# EAGLE library part BNO085 (library df4iah_sensors)
hillcrestlabs BNO085 triaxial Accelerometer triaxial Gyroscope triaxial Magnetometer 32-bit ARM® Cortex™-M0+ Low latency, 1kHz gyro rotation vector 28 pin LGA 3.8mm x 5.2mm x 1.1mm package
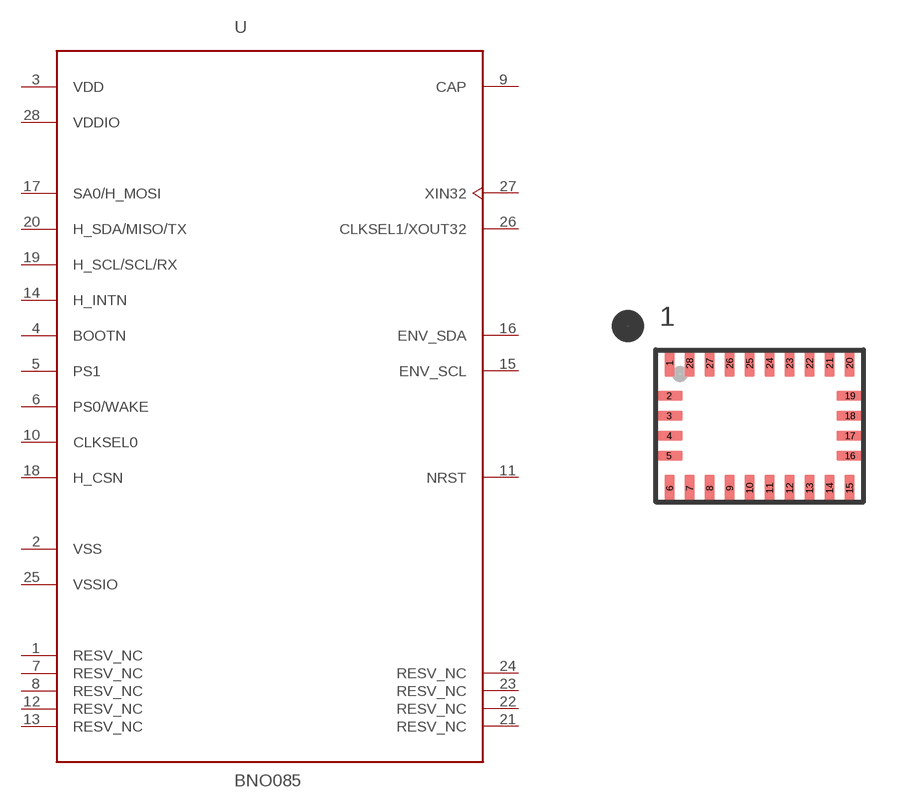
[diagram p4: symbol with the pads of BNO085_LGA28; footprint BNO085_LGA28]

Designator prefix U

## BNO085  [BNO085_LGA28]
1  RESV_NC  nc
2  VSS  pas
3  VDD  pwr
4  BOOTN  in
5  PS1  in
6  PS0/WAKE  in
7  RESV_NC  nc
8  RESV_NC  nc
9  CAP  pas
10  CLKSEL0  in
11  NRST  in
12  RESV_NC  nc
13  RESV_NC  nc
14  H_INTN  out
15  ENV_SCL
16  ENV_SDA
17  SA0/H_MOSI  in
18  H_CSN  in
19  H_SCL/SCL/RX
20  H_SDA/MISO/TX
21  RESV_NC  nc
22  RESV_NC  nc
23  RESV_NC  nc
24  RESV_NC  nc
25  VSSIO  pas
26  CLKSEL1/XOUT32  out
27  XIN32  in
28  VDDIO  pwr

## Footprint BNO085_LGA28 (pad centres in mm)
hillcrestlabs BNO085 triaxial Accelerometer triaxial Gyroscope triaxial Magnetometer 32-bit ARM® Cortex™-M0+ Low latency, 1kHz gyro rotation vector 28 pin LGA 3.8mm x 5.2mm x 1.1mm package
smd 0.25 x 0.675: 1 -2.25,1.562; 6 -2.25,-1.562; 7 -1.75,-1.562; 8 -1.25,-1.562; 9 -0.75,-1.562; 10 -0.25,-1.562; 11 0.25,-1.562; 12 0.75,-1.562; 13 1.25,-1.562; 14 1.75,-1.562; 15 2.25,-1.562; 20 2.25,1.562; 21 1.75,1.562; 22 1.25,1.562; 23 0.75,1.562; 24 0.25,1.562; 25 -0.25,1.562; 26 -0.75,1.562; 27 -1.25,1.562; 28 -1.75,1.562
smd 0.675 x 0.25: 2 -2.263,0.75; 3 -2.263,0.25; 4 -2.263,-0.25; 5 -2.263,-0.75; 16 2.263,-0.75; 17 2.263,-0.25; 18 2.263,0.25; 19 2.263,0.75